# EAGLE library part G3MT (library blafoo)
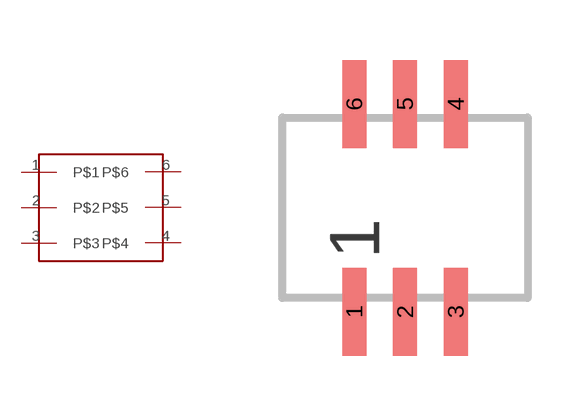
[diagram p1: symbol with the pads of SOP06; footprint SOP06]

Designator prefix -

## G3MT  [SOP06]
1  P$1
2  P$2
3  P$3
4  P$4
5  P$5
6  P$6

## Footprint SOP06 (pad centres in mm)
SMALL OUTLINE PACKAGE
smd 0.6 x 2.2: 1 -1.27,-2.6; 2 0,-2.6; 3 1.27,-2.6; 4 1.27,2.6; 5 0,2.6; 6 -1.27,2.6